# Altium footprint library PSMN4R0-40YS.PcbLib: 1 footprints
Each footprint in its own frame and in the unit in brackets; x right, y up, seen from the top. Pads: shape width x height; smd on the part's side, far side on the other; paste and mask are expansions set on the pad; w line width, h text height; cw(c..) or ccw(c..) is an arc to the next point about the centre after c.
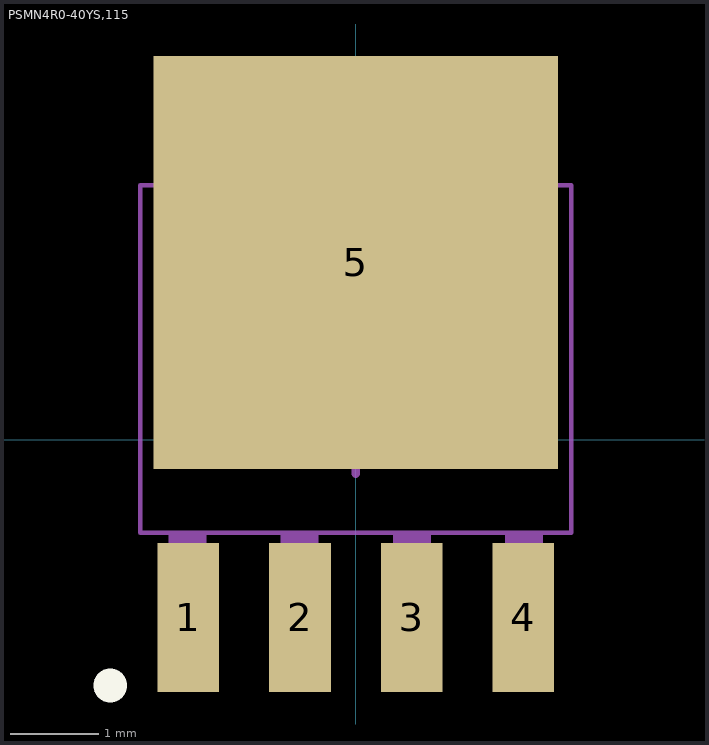
[diagram p0: the footprint, top view; thin cyan lines are the x and y axes]

## PSMN4R0-40YS,115 [mm] "Power MOSFET"
pads (5):
  rect 0.7x1.7 smd: 1(-1.905,-2.02) 2(-0.635,-2.02) 3(0.635,-2.02) 4(1.905,-2.02)
  rect 4.6x4.7 smd: 5(0,2.02)
Top Overlay:
  circle w0.381: c-2.794,-2.794 r0.003
Mechanical 13:
  circle w0.051: c-1.5,0.92 r0.412
  region: 2.125,-2.484 1.702,-2.484 1.702,-1.08 2.125,-1.08
  region: 0.85,-2.487 0.426,-2.487 0.426,-1.08 0.85,-1.08
  region: -0.425,-2.486 -0.851,-2.486 -0.851,-1.08 -0.425,-1.08
  region: -1.7,-2.484 -2.128,-2.484 -2.128,-1.08 -1.7,-1.08
  lines w0.051: -1.5,2.92 -1.5,3.12 -2,3.12 -2,3.57 -1.65,3.92 1.65,3.92 2,3.57 2,3.12 1.5,3.12 1.5,2.92 ; -2.45,-1.055 -2.45,2.895 2.45,2.895 2.45,-1.055 -2.45,-1.055
Mechanical 15:
  lines w0.1: -0.381,0 0,0 ; 0.381,0 0,0 ; 0,0 0,-0.381 0,0.381 0,0
3D body "SOT669.step": height 1.01, standoff 0.01, extent -2.405,-2.56 2.405,3.55